# EAGLE library part DIX9211 (library dix9211)
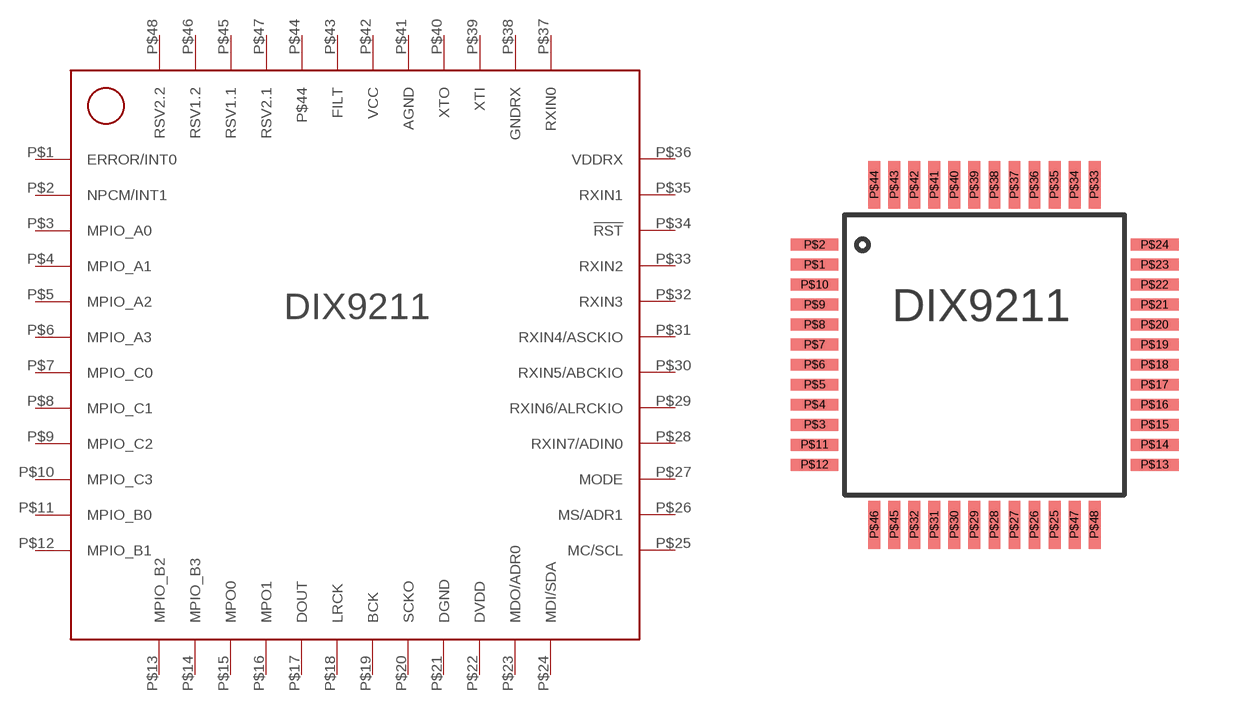
[diagram p0: symbol with the pads of STM_LQFP48; footprint STM_LQFP48]

Designator prefix -

## DIX9211PT  [STM_LQFP48]
P$1  ERROR/INT0
P$2  NPCM/INT1
P$3  MPIO_A0
P$4  MPIO_A1
P$5  MPIO_A2
P$6  MPIO_A3
P$7  MPIO_C0
P$8  MPIO_C1
P$9  MPIO_C2
P$10  MPIO_C3
P$11  MPIO_B0
P$12  MPIO_B1
P$13  MPIO_B2
P$14  MPIO_B3
P$15  MPO0
P$16  MPO1
P$17  DOUT
P$18  LRCK
P$19  BCK
P$20  SCKO
P$21  DGND
P$22  DVDD
P$23  MDO/ADR0
P$24  MDI/SDA
P$25  MC/SCL
P$26  MS/ADR1
P$27  MODE
P$28  RXIN7/ADIN0
P$29  RXIN6/ALRCKIO
P$30  RXIN5/ABCKIO
P$31  RXIN4/ASCKIO
P$32  RXIN3
P$33  RXIN2
P$34  !RST!
P$35  RXIN1
P$36  VDDRX
P$37  RXIN0
P$38  GNDRX
P$39  XTI
P$40  XTO
P$41  AGND
P$42  VCC
P$43  FILT
P$44  P$44
P$45  RSV1.1
P$46  RSV1.2
P$47  RSV2.1
P$48  RSV2.2

## Footprint STM_LQFP48 (pad centres in mm)
STM LQFP48
smd 1.2 x 0.3: P$1 -4.15,2.299; P$2 -4.15,2.799; P$3 -4.15,-1.701; P$4 -4.15,-1.201; P$5 -4.15,-0.701; P$6 -4.15,-0.201; P$7 -4.15,0.299; P$8 -4.15,0.799; P$9 -4.15,1.299; P$10 -4.15,1.799; P$11 -4.15,-2.201; P$12 -4.15,-2.701; P$13 4.35,-2.701; P$14 4.35,-2.201; P$15 4.35,-1.701; P$16 4.35,-1.201; P$17 4.35,-0.701; P$18 4.35,-0.201; P$19 4.35,0.299; P$20 4.35,0.799; P$21 4.35,1.299; P$22 4.35,1.799; P$23 4.35,2.299; P$24 4.35,2.799
smd 0.3 x 1.2: P$25 1.85,-4.201; P$26 1.35,-4.201; P$27 0.85,-4.201; P$28 0.35,-4.201; P$29 -0.15,-4.201; P$30 -0.65,-4.201; P$31 -1.15,-4.201; P$32 -1.65,-4.201; P$33 2.85,4.299; P$34 2.35,4.299; P$35 1.85,4.299; P$36 1.35,4.299; P$37 0.85,4.299; P$38 0.35,4.299; P$39 -0.15,4.299; P$40 -0.65,4.299; P$41 -1.15,4.299; P$42 -1.65,4.299; P$43 -2.15,4.299; P$44 -2.65,4.299; P$45 -2.15,-4.201; P$46 -2.65,-4.201; P$47 2.35,-4.201; P$48 2.85,-4.201